# EAGLE library part MAX3051 (library sapog_reference_hardware)
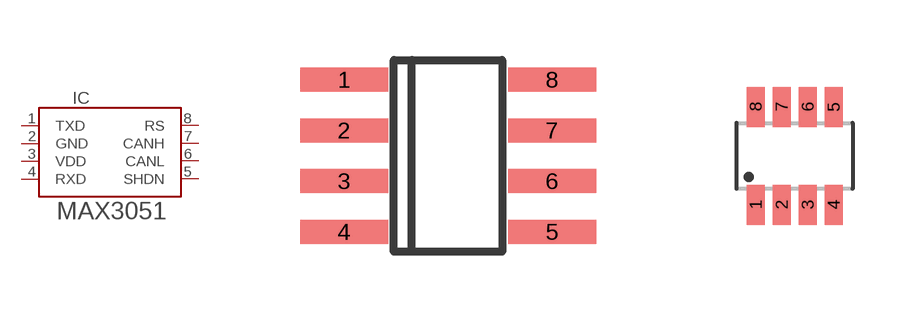
[diagram p3: symbol with the pads of SOIC8; footprints SOIC8, SOT23-8L]

Designator prefix IC

## MAX3051-SOIC8  [SOIC8]
1  TXD
2  GND
3  VDD
4  RXD
5  SHDN
6  CANL
7  CANH
8  RS

## MAX3051-SOT23-8  [SOT23-8L]
Pads as for SOIC8

## Footprint SOIC8 (pad centres in mm)
Small Outline IC
smd 2.2 x 0.6: 1 -2.6,1.905; 2 -2.6,0.635; 3 -2.6,-0.635; 4 -2.6,-1.905; 5 2.6,-1.905; 6 2.6,-0.635; 7 2.6,0.635; 8 2.6,1.905

## Footprint SOT23-8L (pad centres in mm)
SC70/SOT23-8 Source: http://datasheets.maxim-ic.com/en/ds/MAX4335-MAX4338.pdf
smd 0.45 x 1: 1 -0.975,-1.225; 2 -0.325,-1.225; 3 0.325,-1.225; 4 0.975,-1.225; 5 0.975,1.225; 6 0.325,1.225; 7 -0.325,1.225; 8 -0.975,1.225